# Altium schematic symbol library Testpoint1.SchLib: 1 symbol
Pins are listed as number, name and electrical type; pins without a type are passive.

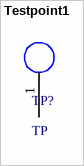
[diagram p0: symbol Testpoint1]

## Testpoint1
designator TP?, comment TP  (no BOM)
footprint Testpoint1
pins: 1